# EAGLE library part MAX1449EHJ+ (library My_Library_RADAR)
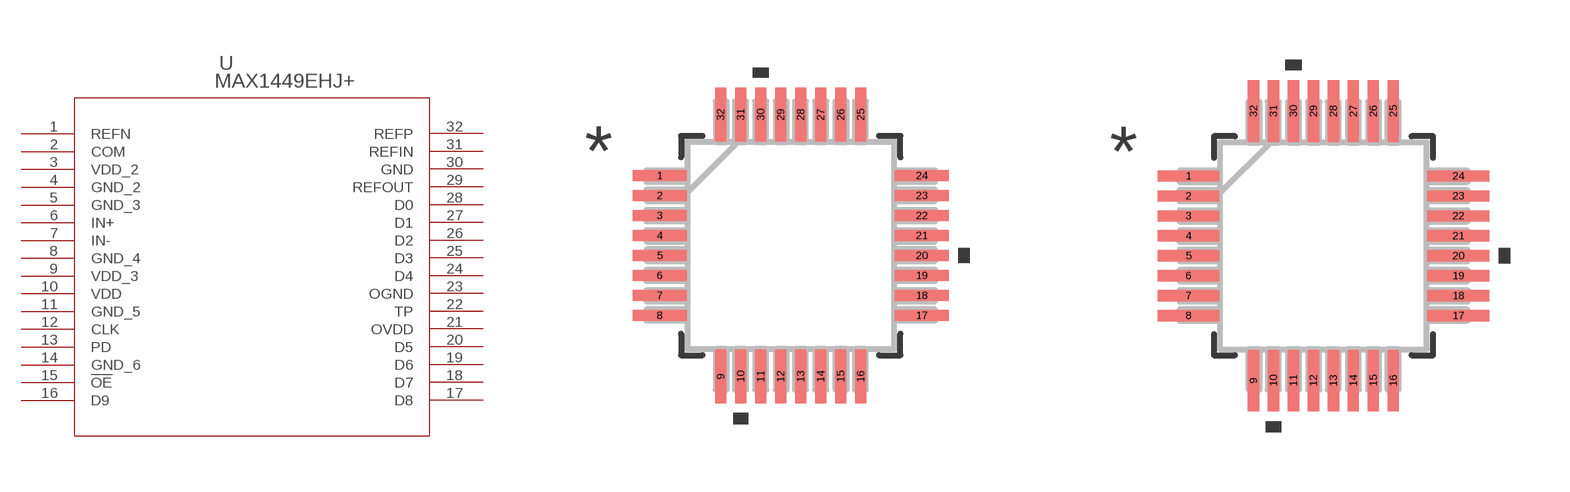
[diagram p4: symbol with the pads of 21-0110B_MXM; footprints 21-0110B_MXM, 21-0110B_MXM-M]

Designator prefix U

## MAX1449EHJ+ (COPYRIGHT: Copyright (C) 2024 Ultra Librarian. All rights reserved.; MANUFACTURER_PART_NUMBER: MAX1449EHJ+; MFR_NAME: Analog Devices Inc)  [21-0110B_MXM]
1  REFN  pas
2  COM  pas
3  VDD_2  pwr
4  GND_2  pwr
5  GND_3  pwr
6  IN+  in
7  IN-  in
8  GND_4  pwr
9  VDD_3  pwr
10  VDD  pwr
11  GND_5  pwr
12  CLK  pas
13  PD  pas
14  GND_6  pwr
15  !OE  pas
16  D9  pas
17  D8  pas
18  D7  pas
19  D6  pas
20  D5  pas
21  OVDD  pwr
22  TP  pas
23  OGND  pwr
24  D4  pas
25  D3  pas
26  D2  pas
27  D1  pas
28  D0  pas
29  REFOUT  out
30  GND  pwr
31  REFIN  in
32  REFP  pas

## MAX1449EHJ+21-0110B_MXM-M (COPYRIGHT: Copyright (C) 2024 Ultra Librarian. All rights reserved.; MANUFACTURER_PART_NUMBER: MAX1449EHJ+; MFR_NAME: Analog Devices Inc)  [21-0110B_MXM-M]
Pads as for 21-0110B_MXM

## MAX1449EHJ+21-0110B_MXM-L (COPYRIGHT: Copyright (C) 2024 Ultra Librarian. All rights reserved.; MANUFACTURER_PART_NUMBER: MAX1449EHJ+; MFR_NAME: Analog Devices Inc)  [21-0110B_MXM-L]
Pads as for 21-0110B_MXM

## Footprint 21-0110B_MXM (pad centres in mm)
smd 1.346 x 0.279: 1 -3.277,1.75; 2 -3.277,1.25; 3 -3.277,0.75; 4 -3.277,0.25; 5 -3.277,-0.25; 6 -3.277,-0.75; 7 -3.277,-1.25; 8 -3.277,-1.75; 17 3.277,-1.75; 18 3.277,-1.25; 19 3.277,-0.75; 20 3.277,-0.25; 21 3.277,0.25; 22 3.277,0.75; 23 3.277,1.25; 24 3.277,1.75
smd 0.279 x 1.346: 9 -1.75,-3.277; 10 -1.25,-3.277; 11 -0.75,-3.277; 12 -0.25,-3.277; 13 0.25,-3.277; 14 0.75,-3.277; 15 1.25,-3.277; 16 1.75,-3.277; 25 1.75,3.277; 26 1.25,3.277; 27 0.75,3.277; 28 0.25,3.277; 29 -0.25,3.277; 30 -0.75,3.277; 31 -1.25,3.277; 32 -1.75,3.277

## Footprint 21-0110B_MXM-M (pad centres in mm)
smd 1.549 x 0.279: 1 -3.378,1.75; 2 -3.378,1.25; 3 -3.378,0.75; 4 -3.378,0.25; 5 -3.378,-0.25; 6 -3.378,-0.75; 7 -3.378,-1.25; 8 -3.378,-1.75; 17 3.378,-1.75; 18 3.378,-1.25; 19 3.378,-0.75; 20 3.378,-0.25; 21 3.378,0.25; 22 3.378,0.75; 23 3.378,1.25; 24 3.378,1.75
smd 0.279 x 1.549: 9 -1.75,-3.378; 10 -1.25,-3.378; 11 -0.75,-3.378; 12 -0.25,-3.378; 13 0.25,-3.378; 14 0.75,-3.378; 15 1.25,-3.378; 16 1.75,-3.378; 25 1.75,3.378; 26 1.25,3.378; 27 0.75,3.378; 28 0.25,3.378; 29 -0.25,3.378; 30 -0.75,3.378; 31 -1.25,3.378; 32 -1.75,3.378

## Footprint 21-0110B_MXM-L (pad centres in mm)
smd 1.143 x 0.229: 1 -3.175,1.75; 2 -3.175,1.25; 3 -3.175,0.75; 4 -3.175,0.25; 5 -3.175,-0.25; 6 -3.175,-0.75; 7 -3.175,-1.25; 8 -3.175,-1.75; 17 3.175,-1.75; 18 3.175,-1.25; 19 3.175,-0.75; 20 3.175,-0.25; 21 3.175,0.25; 22 3.175,0.75; 23 3.175,1.25; 24 3.175,1.75
smd 0.229 x 1.143: 9 -1.75,-3.175; 10 -1.25,-3.175; 11 -0.75,-3.175; 12 -0.25,-3.175; 13 0.25,-3.175; 14 0.75,-3.175; 15 1.25,-3.175; 16 1.75,-3.175; 25 1.75,3.175; 26 1.25,3.175; 27 0.75,3.175; 28 0.25,3.175; 29 -0.25,3.175; 30 -0.75,3.175; 31 -1.25,3.175; 32 -1.75,3.175